# Altium footprint library pokey-switch-board.PcbLib: 2 footprints
Each footprint in its own frame and in the unit in brackets; x right, y up, seen from the top. Pads: shape width x height; smd on the part's side, far side on the other; paste and mask are expansions set on the pad; w line width, h text height; cw(c..) or ccw(c..) is an arc to the next point about the centre after c.
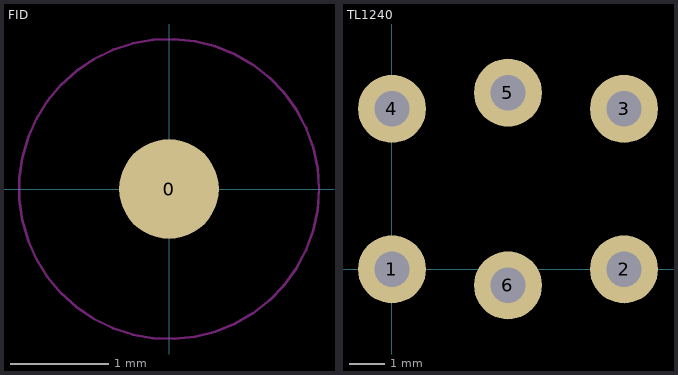
[diagram p0: the footprints below, top view; thin cyan lines are the x and y axes]

## FID [mil] "FIDUCIAL"
pads (1):
  round 40 smd paste+0 mask+40: 0(0,0)
Keep-Out Layer:
  circle w1: c0,0 r60.21

## TL1240 [mil] "TL1240 illuminated tactile switch"
height 323
pads (6):
  round 75 hole 39: 1(0,0) 2(256,0) 3(256,177) 4(0,177) 5(127.95,194.88) 6(127.95,-17.72)
3D body "TL1240xQ1Jxxx-switch3d.stp": height 323.64, standoff -195.85, extent -25.51,-57.64 285.51,237.64